# Altium footprint library ComponentesTesis.PcbLib: 9 footprints
Each footprint in its own frame and in the unit in brackets; x right, y up, seen from the top. Pads: shape width x height; smd on the part's side, far side on the other; paste and mask are expansions set on the pad; w line width, h text height; cw(c..) or ccw(c..) is an arc to the next point about the centre after c.
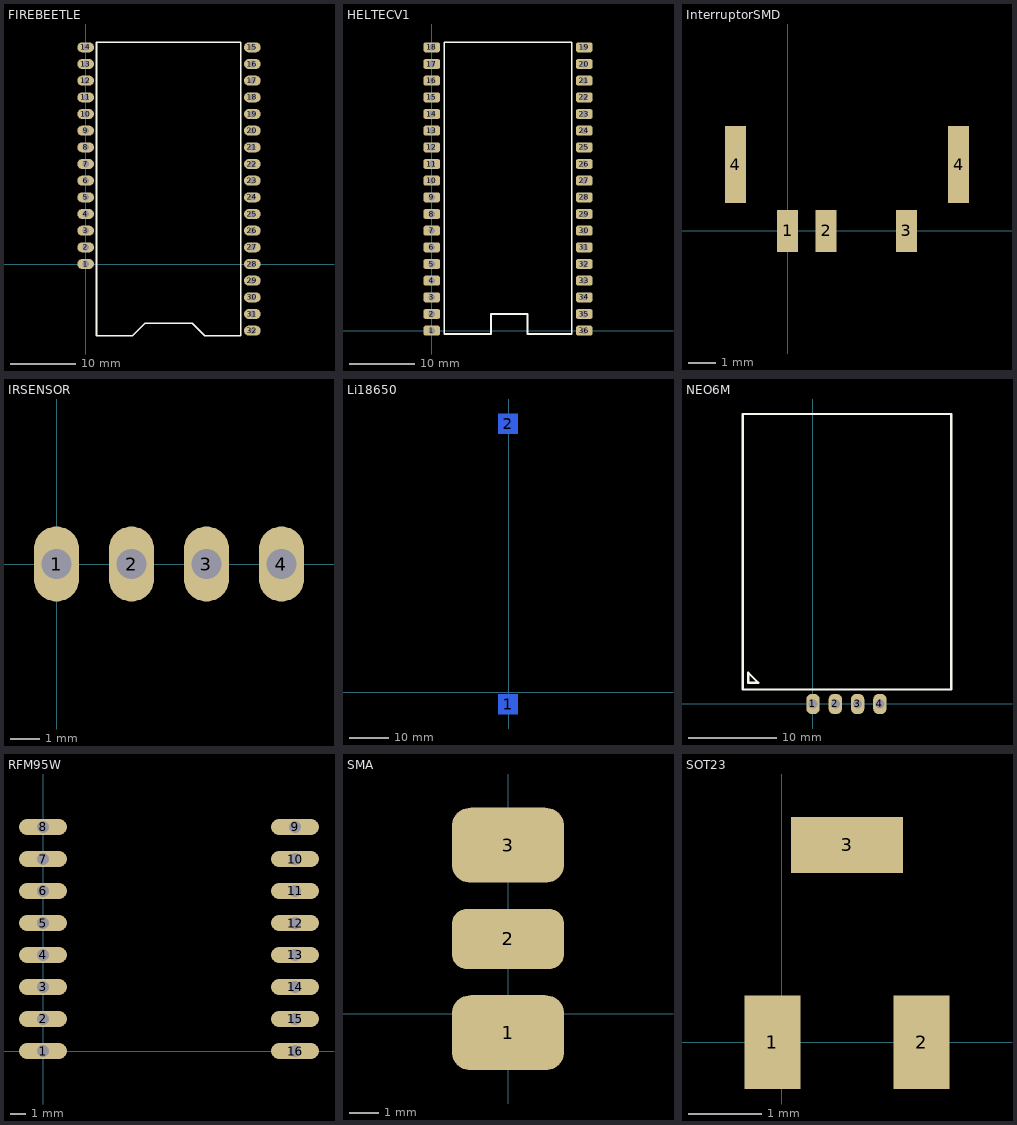
[diagram p0: the footprints below, top view; thin cyan lines are the x and y axes]

## FIREBEETLE [mil]
pads (32):
  oval 100x60 hole 40: 1(0,0) 2(0,100) 3(0,200) 4(0,300) 5(0,400) 6(0,500) 7(0,600) 8(0,700) 9(0,800) 10(0,900) 11(0,1000) 12(0,1100) 13(0,1200) 14(0,1300) 15(1000,1300) 16(1000,1200) 17(1000,1100) 18(1000,1000) 19(1000,900) 20(1000,800) 21(1000,700) 22(1000,600) 23(1000,500) 24(1000,400) 25(1000,300) 26(1000,200) 27(1000,100) 28(1000,0) 29(1000,-100) 30(1000,-200) 31(1000,-300) 32(1000,-400)
Top Overlay:
  lines w10: 65,-430 65,1330 930,1330 930,-430 713.75,-430 638.75,-355 356.25,-355 281.25,-430 65,-430
3D body "1TS003B.step": height 94.8, standoff 4.25, extent 883.98,-637.52 1027.68,-452.48
3D body "1TS003B.step": height 94.8, standoff 4.25, extent -31.85,-630 111.85,-444.96
3D body "USB Type C Port (SMD Type).STEP": height 163.19, standoff -2.17, extent 294.02,-912.4 645.98,-601.38
3D body "ESP32-S3-WROOM.step": height 122.44, standoff -1.97, extent 135.28,480.67 844.72,1485
3D body "Firebeetle.step": height 19.68, standoff 0, extent -5,-866.1 995,1496.1
3D body "TSOT-6.step": height 39.37, standoff 0, extent 207.91,-290.12 322.09,-179.88
3D body "TSOT-6.step": height 39.37, standoff 0, extent 617.91,-290.12 732.09,-179.88

## HELTECV1 [mil] "ESP32 BASED MCU"
pads (36):
  rrect50% 100x60 hole 40: 1(0,0) 2(0,100) 3(0,200) 4(0,300) 5(0,400) 6(0,500) 7(0,600) 8(0,700) 9(0,800) 10(0,900) 11(0,1000) 12(0,1100) 13(0,1200) 14(0,1300) 15(0,1400) 16(0,1500) 17(0,1600) 18(0,1700) 19(915,1700) 20(915,1600) 21(915,1500) 22(915,1400) 23(915,1300) 24(915,1200) 25(915,1100) 26(915,1000) 27(915,900) 28(915,800) 29(915,700) 30(915,600) 31(915,500) 32(915,400) 33(915,300) 34(915,200) 35(915,100) 36(915,0)
Top Overlay:
  lines w10: 75,-20 355,-20 355,100 575,100 575,-20 840,-20 840,1730 75,1730 75,-20
3D body "ESP32 Heltec WIFI.STEP": height 557.58, standoff -64.96, extent -33.03,-110 963.03,1927.4

## InterruptorSMD [mil]
pads (5):
  rect 30x60 all layers, no hole: 1(0,0) 2(55,0) 3(170,0)
  rect 30x110 all layers, no hole: 4(-75,95) 4(245,95)
3D body "Selector Switch - MSK1103.stp": height 56.1, standoff -22.9, extent -72,0 242,243.6

## IRSENSOR [mil]
pads (4):
  oval 60x100 hole 40: 1(0,0) 2(100,0) 3(200,0) 4(300,0)
3D body "HW-691.STEP": height 532.77, standoff -97.16, extent -86.22,-50 386.22,619.29

## Li18650 [mil]
pads (2):
  rect 200x200 smd far side: 1(-10,-120) 2(-10,2695)
3D body "18650 ?????? ????.STEP": height 762.2, standoff 37.8, extent -372.2,0.9 352.21,2575.76
3D body "Pin.step": height 166.61, standoff 8.94, extent -108.43,2575 88.42,2668.76
3D body "Pin.step": height 166.61, standoff 8.94, extent -108.43,-95 88.43,-1.24

## NEO6M [mil]
pads (4):
  rrect80% 60x90 hole 40: 1(0,0) 2(100,0) 3(200,0) 4(300,0)
Top Overlay:
  lines w10: -315,65 620,65 620,1300 -315,1300 -315,65 ; -290,95 -290,140 -245,95 -290,95
3D body "ublox NEO-6M-1.step": height 269.29, standoff 100, extent -329.56,-78.51 635,1358.5

## RFM95W [mil]
pads (16):
  oval 120x40 hole 30: 1(0,0) 2(0,80) 3(0,160) 4(0,240) 5(0,320) 6(0,400) 7(0,480) 8(0,560) 9(630,560) 10(630,480) 11(630,400) 12(630,320) 13(630,240) 14(630,160) 15(630,80) 16(630,0)
3D body "RFM95 LoRa v15.step": height 80.35, standoff 0, extent -9.96,-40 619.96,589.92

## SMA [mil]
pads (3):
  rrect50% 150x100 all layers, no hole: 1(0,-25) 3(0,225)
  rrect50% 150x80 all layers, no hole: 2(0,100)
3D body "2985-6037.STEP": height 170.91, standoff -140.91, extent -56.97,-87.59 505.24,287.6
3D body: height 10, standoff -447, extent 770,-100 770,-100
3D body: height 10, standoff -447, extent 575,290 575,290
3D body "c-1045351-1.STEP": height 140, standoff -110, extent 148.01,-44.33 595,244.34
3D body "antena v1.step": height 196.85, standoff -196.85, extent 515,-96.6 2483.5,296.6

## SOT23 [mil]
pads (3):
  rect 30x50 all layers, no hole: 1(-5,0) 2(75,0)
  rect 60x30 all layers, no hole: 3(35.01,105.82)
3D body "SOT23-3.stp": height 47.44, standoff 0.8, extent -24.05,-5.82 94.06,105.82